# Altium schematic symbol library Misc PCB Pattern.SchLib: 2 symbols
Pins are listed as number, name and electrical type; pins without a type are passive.

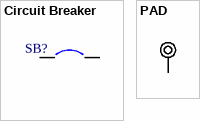
[diagram p0: symbols Circuit Breaker to PAD]

## Circuit Breaker
designator SB?  (value not drawn)
Solder: NO; Published: 24-Mar-1999; Revision: July-2002: Re-released for DXP Platform.; Publisher: Altium Limited
footprint JP2_SMD
pins: 1, 2

## PAD
designator TP?  (no BOM)
Probe, Test Point
footprint PAD-TOP-ROUND-D1.5
footprint PAD-TOP-RECTANGULAR-W2.5L1.5
footprint PAD-MUL-ROUND-D1.5H0.6
footprint PAD-MUL-RECTANGULAR-W2.5L1.5H0.6
footprint PAD-MUL-RECTANGULAR-W1.1L1.1H0.7
footprint PAD-TOP-ROUND-D1.0 (Pad 1mm Diameter)
pins: 1